# Altium integrated library GYT_Rx.IntLib: 45 symbols
Pins are listed as number, name and electrical type; pins without a type are passive.

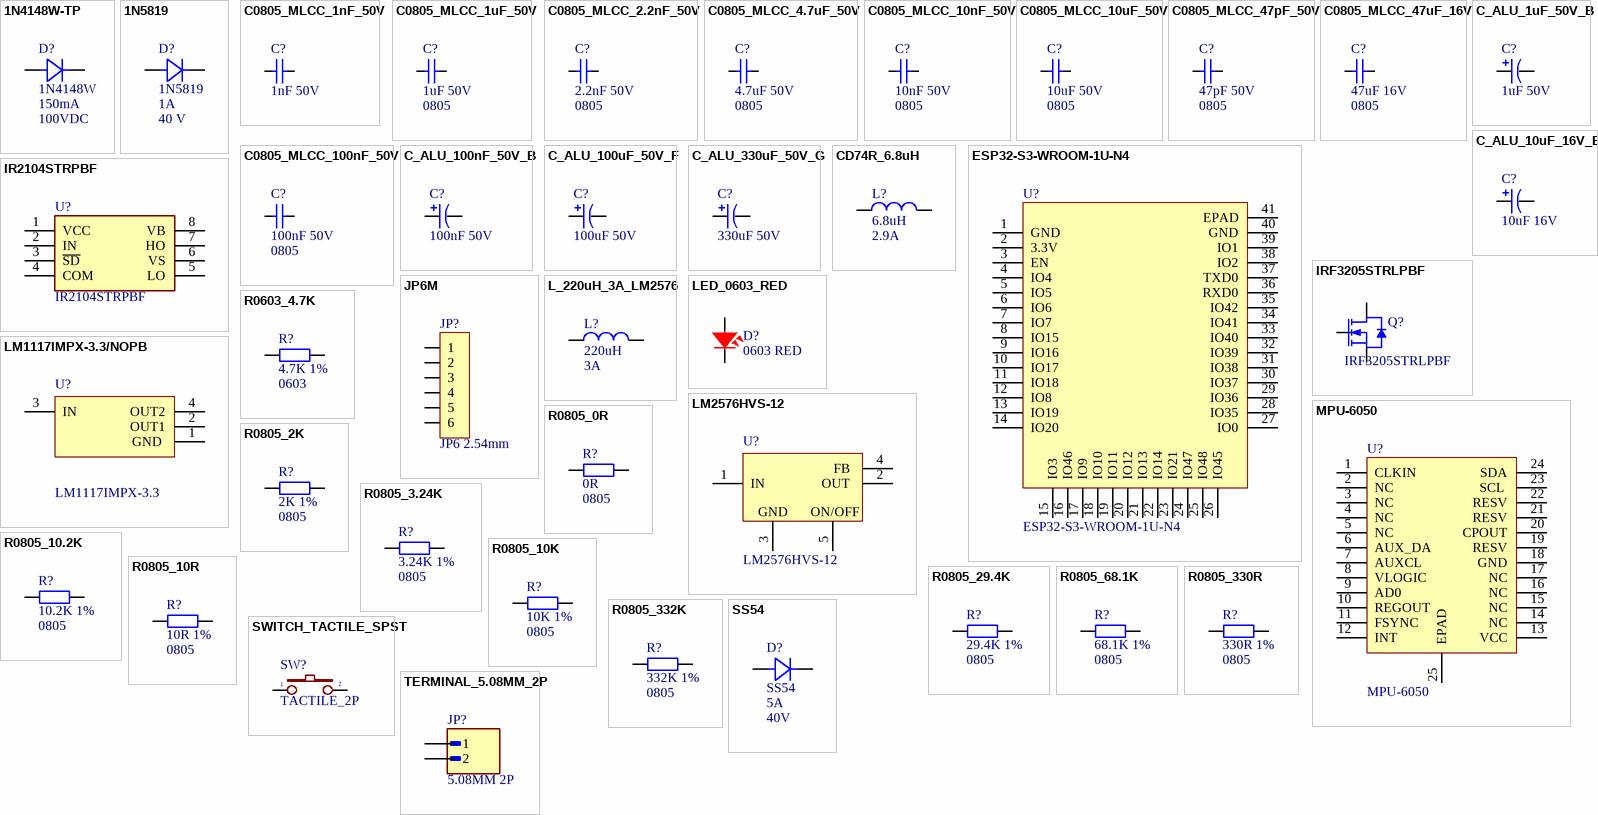
[diagram p0: symbols 1N4148W-TP to TERMINAL_5.08MM_2P]

## 1N4148W-TP
designator D?, comment 1N4148W  Current: 150mA  DC Voltage: 100VDC
Diode 100 V 150mA Surface Mount SOD-123; Manufacturer: Micro Commercial Co; Manufacture Part Number: 1N4148W-TP; Packaging: Cut Tape (CT); Link: https://www.digikey.cn/en/products/detail/micro-commercial-co/1N4148W-TP/717196; Price: $0.12
footprint DIO-SMD-123
pins: A, C

## 1N5819
designator D?  Current - Average Rectified (Io): 1A  Voltage - DC Reverse (Vr) (Max): 40 V
Diode 40 V 1A Surface Mount SOD-123; Manufacturer: Diodes Incorporated; Manufacture Part Number: 1N5819HW-7-F; Voltage - Forward (Vf) (Max) @ If: 450 mV @ 1 A; Capacitance @ Vr, F: 60pF @ 4V, 1MHz; Packaging: Cut Tape (CT); Link: https://www.digikey.cn/en/products/detail/diodes-incorporated/1N5819HW-7-F/814970; Price: $0.43; Operating Temperature - Junction: -65°C ~ 125°C
footprint DIO-SMD-123
pins: A, C

## C0805_MLCC_1nF_50V
designator C?, comment 1nF 50V
1000 pF ±5% 50V Ceramic Capacitor C0G, NP0 0805 (2012 Metric); Manufacturer: KEMET; Manufacture Part Number: C0805C102J5GAC7800; Packaging: Cut Tape (CT); Link: https://www.digikey.cn/en/products/detail/kemet/C0805C102J5GAC7800/411135; Price: $0.11; Size: 0805
footprint CAP_SMD_0805_NEW
pins: 1, 2

## C0805_MLCC_1uF_50V
designator C?, comment 1uF 50V  Size: 0805
1 µF ±10% 50V Ceramic Capacitor X7R 0805 (2012 Metric); Manufacturer: Samsung Electro-Mechanics; Manufacture Part Number: CL21B105KBFNNNG; Packaging: Cut Tape (CT); Link: https://www.digikey.cn/en/products/detail/samsung-electro-mechanics/CL21B105KBFNNNG/3894467; Price: $0.11
footprint CAP_SMD_0805_NEW
pins: 1, 2

## C0805_MLCC_2.2nF_50V
designator C?, comment 2.2nF 50V  Size: 0805
2200 pF ±1% 50V Ceramic Capacitor C0G, NP0 0805 (2012 Metric); Manufacturer: YAGEO; Manufacture Part Number: CC0805FKNPO9BN222; Packaging: Cut Tape (CT); Link: https://www.digikey.cn/en/products/detail/yageo/CC0805FKNPO9BN222/5883918; Price: $0.45
footprint CAP_SMD_0805_NEW
pins: 1, 2

## C0805_MLCC_4.7uF_50V
designator C?, comment 4.7uF 50V  Size: 0805
4.7 µF ±10% 50V Ceramic Capacitor X5R 0805 (2012 Metric); Manufacturer: Samsung Electro-Mechanics; Manufacture Part Number: CL21A475KBQNNNE; Packaging: Cut Tape (CT); Link: https://www.digikey.cn/en/products/detail/samsung-electro-mechanics/CL21A475KBQNNNE/3886906; Price: $0.23
footprint CAP_SMD_0805_NEW
pins: 1, 2

## C0805_MLCC_10nF_50V
designator C?, comment 10nF 50V  Size: 0805
10000 pF ±10% 50V Ceramic Capacitor X7R 0805 (2012 Metric); Manufacturer: Samsung Electro-Mechanics; Manufacture Part Number: CL21B103KBANNNC; Packaging: Cut Tape (CT); Link: https://www.digikey.cn/en/products/detail/samsung-electro-mechanics/CL21B103KBANNNC/3886673; Price: $0.10
footprint CAP_SMD_0805_NEW
pins: 1, 2

## C0805_MLCC_10uF_50V
designator C?, comment 10uF 50V  Size: 0805
10 µF ±20% 50V Ceramic Capacitor X5R 0805 (2012 Metric); Manufacturer: Murata Electronics; Manufacture Part Number: GRM21BR61H106ME43L; Packaging: Cut Tape (CT); Link: https://www.digikey.cn/en/products/detail/murata-electronics/GRM21BR61H106ME43L/10326317; Price: $0.34
footprint CAP_SMD_0805_NEW
pins: 1, 2

## C0805_MLCC_47pF_50V
designator C?, comment 47pF 50V  Size: 0805
47 pF ±5% 50V Ceramic Capacitor C0G, NP0 0805 (2012 Metric); Manufacturer: YAGEO; Manufacture Part Number: CC0805JRNPO9BN470; Packaging: Cut Tape (CT); Link: https://www.digikey.cn/en/products/detail/yageo/CC0805JRNPO9BN470/302841; Price: $0.10
footprint CAP_SMD_0805_NEW
pins: 1, 2

## C0805_MLCC_47uF_16V
designator C?, comment 47uF 16V  Size: 0805
47 µF ±10% 16V Ceramic Capacitor X5R 1210 (3225 Metric); Manufacturer: Samsung Electro-Mechanics; Manufacture Part Number: CL32A476KOJNNNE; Packaging: Cut Tape (CT); Link: https://www.digikey.cn/en/products/detail/samsung-electro-mechanics/CL32A476KOJNNNE/3889034; Price: $0.51
footprint CAP_SMD_0805_NEW
pins: 1, 2

## C0805_MLCC_100nF_50V
designator C?, comment 100nF 50V  Size: 0805
0.1 µF ±10% 50V Ceramic Capacitor X7R 0805 (2012 Metric); Manufacturer: YAGEO; Manufacture Part Number: CC0805KRX7R9BB104; Packaging: Cut Tape (CT); Link: https://www.digikey.cn/en/products/detail/yageo/CC0805KRX7R9BB104/302874; Price: $0.10
footprint CAP_SMD_0805_NEW
pins: 1, 2

## C_ALU_1uF_50V_B
designator C?, comment 1uF 50V
1uF 50V 7mA@120Hz ±20% SMD,D4xL5.4mm Aluminum Electrolytic Capacitors - SMD ROHS; Manufacturer: KNSCHA; Manufacture Part Number: RST1UF50V017; Packaging: Cut Tape; Link: https://www.lcsc.com/product-detail/Aluminum-Electrolytic-Capacitors-SMD_KNSCHA-RST1UF50V017_C4747972.html; Price: $ 0.0209
footprint CAP-ALU-SMD-B -NEW
pins: 1, 2

## C_ALU_10uF_16V_B
designator C?, comment 10uF 16V
10uF 16V 14mA@120Hz ±20% SMD,D4xL5.4mm Aluminum Electrolytic Capacitors - SMD ROHS; Manufacturer: KNSCHA; Manufacture Part Number: RST10UF16V013; Packaging: Cut Tape (CT); Link: https://www.lcsc.com/product-detail/Aluminum-Electrolytic-Capacitors-SMD_KNSCHA-RST10UF16V013_C4747968.html; Price: $0.0217; Size: B
footprint CAP-ALU-SMD-B -NEW
pins: 1, 2

## C_ALU_100nF_50V_B
designator C?, comment 100nF 50V
100nF 50V ±20% SMD,D4xL5.4mm Aluminum Electrolytic Capacitors - SMD ROHS; Manufacturer: Changzhou Huawei Elec; Manufacture Part Number: VT1H0R1MB054000CE0; Packaging: Cut Tape; Link: https://www.lcsc.com/product-detail/Aluminum-Electrolytic-Capacitors-SMD_Changzhou-Huawei-Elec-VT1H0R1MB054000CE0_C271438.html; Price: $ 0.0342
footprint CAP-ALU-SMD-B -NEW
pins: 1, 2

## C_ALU_100uF_50V_F
designator C?, comment 100uF 50V
100uF 50V 140mA@120Hz ±20% SMD,D8xL10mm Aluminum Electrolytic Capacitors - SMD ROHS; Manufacturer: Nichicon; Manufacture Part Number: UWT1H101MNL1GS; Link: https://jlcpcb.com/partdetail/Nichicon-UWT1H101MNL1GS/C445063?spm=searchList; Price: $0.1311
footprint CAP-ALU-SMD-F-NEW
pins: 1, 2

## C_ALU_330uF_50V_G
designator C?, comment 330uF 50V
330uF 50V 170mA@120Hz ±20% SMD,D10xL10.2mm Aluminum Electrolytic Capacitors - SMD ROHS; Manufacturer: KNSCHA; Manufacture Part Number: RVT330UF50V167RV085; Packaging: Cut Tape (CT); Link: https://jlcpcb.com/partdetail/KNSCHA-RVT330UF50V167RV085/C5155333; Price: $0.0941
footprint CAP-ALU-SMD-G-NEW
pins: 1, 2

## CD74R_6.8uH
designator L?  Inductor: 6.8uH  Current: 2.9A  (hidden comment: CD74R_6.8uH)
2.9A 6.8uH ±30% SMD,7.5x7.5mm Power Inductors ROHS; Manufacturer: SHOU HAN; Manufacture Part Number: CYH74-6.8UH; Link: https://www.lcsc.com/product-detail/Power-Inductors_SHOU-HAN-CYH74-6-8UH_C19268626.html; Price: $ 0.0674
footprint CD74R
pins: 1, 2

## ESP32-S3-WROOM-1U-N4
designator U?
SMD,18x19.2mm WiFi Modules ROHS; Manufacturer: Espressif Systems; Manufacture Part Number: ESP32-S3-WROOM-1U-N4; Packaging: Cut Tape (CT); Link: https://www.lcsc.com/product-detail/WiFi-Modules_Espressif-Systems-ESP32-S3-WROOM-1U-N4_C2980296.html; Price: $ 3.72
footprint ESP32-S3-WROOM-1U
pins: 1 GND, 2 3.3V, 3 EN, 4 IO4, 5 IO5, 6 IO6, 7 IO7, 8 IO15, 9 IO16, 10 IO17, 11 IO18, 12 IO8, 13 IO19, 14 IO20, 15 IO3, 16 IO46, 17 IO9, 18 IO10, 19 IO11, 20 IO12, 21 IO13, 22 IO14, 23 IO21, 24 IO47, 25 IO48, 26 IO45, 27 IO0, 28 IO35, 29 IO36, 30 IO37, 31 IO38, 32 IO39, 33 IO40, 34 IO41, 35 IO42, 36 RXD0, 37 TXD0, 38 IO2, 39 IO1, 40 GND, 41 EPAD

## IR2104STRPBF
designator U?
Half Bridge 2 210mA 100ns 50ns 10V~20V 360mA SOIC-8 Gate Drivers ROHS; Manufacturer: Infineon Technologies; Manufacture Part Number: IR2104STRPBF; Packaging: Cut Tape (CT); Link: https://www.lcsc.com/product-detail/Gate-Drivers_Infineon-Technologies-IR2104STRPBF_C2960.html; Price: $ 0.51; Peak Output Current(source): 210mA; Rise Time: 100ns; Fall Time: 50ns; Supply Voltage: 10V~20V; Peak Output Current(sink): 360mA
footprint SOIC-8
pins: 1 VCC, 2 IN, 3 ~{SD}, 4 COM, 5 LO, 6 VS, 7 HO, 8 VB

## IRF3205STRLPBF
designator Q?
N-Channel 55 V 110A (Tc) 200W (Tc) Surface Mount D2PAK; Manufacturer: Infineon Technologies; Drain to Source Voltage (Vdss): 55 V; Drive Voltage (Max Rds On, Min Rds On): 10V; Vgs (Max): ±20V; Manufacture Part Number: IRF3205STRLPBF; Packaging: Cut Tape (CT); Link: https://www.digikey.cn/en/products/detail/infineon-technologies/IRF3205STRLPBF/856540; Price: $1.73; FET Type: N-Channel; Current - Continuous Drain (Id) @ 25°C: 110A (Tc); Power Dissipation (Max): 200W (Tc); Operating Temperature: -55°C ~ 175°C (TJ)
footprint TO263-3
pins: 1 G, 3 S, 4 D

## JP6M
designator JP?, comment JP6 2.54mm
Connector Header Through Hole 6 position 0.100" (2.54mm); Manufacturer: Würth Elektronik; Manufacture Part Number: 61300611121; Packaging: Bulk; Link: https://www.digikey.cn/en/products/detail/w%C3%BCrth-elektronik/61300611121/4846833; Price: $0.35
footprint JP6_M
pins: 1, 2, 3, 4, 5, 6

## L_220uH_3A_LM2576
designator L?, comment Inductor: 220uH  Current: 3A  (hidden comment: 220uH 3A)
Link: https://banlinhkien.com/cuon-cam-220uh-3a-lm2576-p6646202.html
footprint L_TOR_13x7
pins: 1, 2

## LED_0603_RED
designator D?, comment 0603 RED
Red 625nm LED Indication - Discrete 2V 0603 (1608 Metric); Manufacturer: Würth Elektronik; Manufacture Part Number: 150060RS75000; Packaging: Cut Tape (CT); Link: https://www.digikey.cn/en/products/detail/w%C3%BCrth-elektronik/150060RS75000/4489901; Price: $0.15
footprint LED-0603
pins: 1, 2

## LM1117IMPX-3.3/NOPB
designator U?, comment LM1117IMPX-3.3
Linear Voltage Regulator IC Positive Fixed 1 Output 800mA SOT-223-4; Manufacturer: Texas Instruments; Manufacture Part Number: LM1117IMPX-3.3/NOPB; Packaging: Cut Tape (CT); Link: https://www.digikey.cn/en/products/detail/texas-instruments/LM1117IMPX-3-3-NOPB/1870906; Price: $1.14
footprint SOT-223-4
pins: 1 GND , 2 OUT1, 3 IN, 4 OUT2
text: /

## LM2576HVS-12
designator U?
Switching Voltage Regulators SIMPLE SWITCHER&reg; 4V to 60V, 3A Low Component Count Step-Down Regulator 5-DDPAK/TO-263 -40 to 125; Manufacturer: Texas Instruments; Manufacture Part Number: LM2576HVS-12; Packaging: Tube; Link: https://www.mouser.vn/ProductDetail/Texas-Instruments/LM2576HVS-12?qs=X1J7HmVL2ZG26yVYlinkCQ%3D%3D; Price: $11.83
footprint IC_LM2596SX-12/NOPB
pins: 1 IN, 2 OUT , 3 GND , 4 FB , 5 ON/OFF
text: /

## MPU-6050
designator U?
Accelerometer, Gyroscope, 6 Axis Sensor I2C Output; Manufacturer: TDK InvenSense; Manufacture Part Number: MPU-6050; Packaging: Cut Tape; Link: https://www.lcsc.com/product-detail/Attitude-Sensor-Gyroscope_TDK-InvenSense-MPU-6050_C24112.html; Price: $ 7.87
footprint QFN_24
pins: 1 CLKIN, 2 NC, 3 NC, 4 NC, 5 NC, 6 AUX_DA, 7 AUXCL, 8 VLOGIC, 9 AD0 , 10 REGOUT, 11 FSYNC, 12 INT, 13 VCC, 14 NC, 15 NC, 16 NC, 17 NC, 18 GND, 19 RESV, 20 CPOUT, 21 RESV, 22 RESV, 23 SCL , 24 SDA, 25 EPAD

## R0603_4.7K
designator R?, comment 4.7K 1%  Size: 0603
4.7 kOhms ±1% 0.1W, 1/10W Chip Resistor 0603 (1608 Metric) Moisture Resistant Thick Film; Manufacturer: YAGEO; Manufacture Part Number: RC0603FR-074K7L; Packaging: Cut Tape (CT); Link: https://www.digikey.com/en/products/detail/yageo/RC0603FR-074K7L/727212; Price: $0.10
footprint RES_SMD_0603
pins: 1, 2

## R0805_0R
designator R?, comment 0R  Size: 0805
0 Ohms Jumper Chip Resistor 0805 (2012 Metric) Automotive AEC-Q200 Thick Film; Manufacturer: Vishay Dale; Manufacture Part Number: CRCW08050000Z0EA; Packaging: Cut Tape (CT); Link: https://www.digikey.cn/en/products/detail/vishay-dale/CRCW08050000Z0EA/1175125; Price: $0.10
footprint RES_SMD_0805
pins: 1, 2

## R0805_2K
designator R?, comment 2K 1%  Size: 0805
2 kOhms ±1% 0.125W, 1/8W Chip Resistor 0805 (2012 Metric) Automotive AEC-Q200 Thick Film; Manufacturer: Panasonic Electronic Components; Manufacture Part Number: ERJ-6ENF2001V; Packaging: Cut Tape (CT); Link: https://www.digikey.com/en/products/detail/panasonic-electronic-components/ERJ-6ENF2001V/111341; Price: $0.10
footprint RES_SMD_0805
pins: 1, 2

## R0805_3.24K
designator R?, comment 3.24K 1%  Size: 0805
3.24 kOhms ±1% 0.125W, 1/8W Chip Resistor 0805 (2012 Metric) Moisture Resistant Thick Film; Manufacturer: YAGEO; Manufacture Part Number: RC0805FR-073K24L; Packaging: Cut Tape (CT); Link: https://www.digikey.cn/en/products/detail/yageo/RC0805FR-073K24L/727811; Price: $0.10
footprint RES_SMD_0805
pins: 1, 2

## R0805_10.2K
designator R?, comment 10.2K 1%  Size: 0805
10.2 kOhms ±1% 0.125W, 1/8W Chip Resistor 0805 (2012 Metric) Moisture Resistant Thick Film; Manufacturer: YAGEO; Manufacture Part Number: RC0805FR-0710K2L; Packaging: Cut Tape (CT); Link: https://www.digikey.cn/en/products/detail/yageo/RC0805FR-0710K2L/727538; Price: $0.10
footprint RES_SMD_0805
pins: 1, 2

## R0805_10K
designator R?, comment 10K 1%  Size: 0805
10 kOhms ±1% 0.125W, 1/8W Chip Resistor 0805 (2012 Metric) Moisture Resistant Thick Film; Manufacturer: YAGEO; Manufacture Part Number: RC0805FR-0710KL; Packaging: Cut Tape (CT); Price: $0.10; Link: https://www.digikey.cn/en/products/detail/yageo/RC0805FR-0710KL/727535
footprint RES_SMD_0805
pins: 1, 2

## R0805_10R
designator R?, comment 10R 1%  Size: 0805
10 Ohms ±1% 0.125W, 1/8W Chip Resistor 0805 (2012 Metric) Moisture Resistant Thick Film; Manufacturer: YAGEO; Manufacture Part Number: RC0805FR-0710RL; Packaging: Cut Tape (CT); Link: https://www.digikey.com/en/products/detail/yageo/RC0805FR-0710RL/727534; Price: $0.10
footprint RES_SMD_0805
pins: 1, 2

## R0805_29.4K
designator R?, comment 29.4K 1%  Size: 0805
29.4 kOhms ±1% 0.125W, 1/8W Chip Resistor 0805 (2012 Metric) Moisture Resistant Thick Film; Manufacturer: YAGEO; Manufacture Part Number: RC0805FR-0729K4L; Packaging: Cut Tape (CT); Price: $0.10; Link: https://www.digikey.cn/en/products/detail/yageo/RC0805FR-0729K4L/727796
footprint RES_SMD_0805
pins: 1, 2

## R0805_68.1K
designator R?, comment 68.1K 1%  Size: 0805
68.1 kOhms ±1% 0.125W, 1/8W Chip Resistor 0805 (2012 Metric) Moisture Resistant Thick Film; Manufacturer: YAGEO; Manufacture Part Number: RC0805FR-0768K1L; Packaging: Cut Tape (CT); Price: $0.10; Link: https://www.digikey.cn/en/products/detail/yageo/RC0805FR-0768K1L/728100?s=N4IgTCBcDaIEoGEAMAOJBWAYnAtEg7AGwoDSAjADIgC6AvkA
footprint RES_SMD_0805
pins: 1, 2

## R0805_330R
designator R?, comment 330R 1%  Size: 0805
330 Ohms ±1% 0.125W, 1/8W Chip Resistor 0805 (2012 Metric) Automotive AEC-Q200 Thick Film; Manufacturer: Stackpole Electronics Inc; Manufacture Part Number: RMCF0805FT330R; Packaging: Cut Tape (CT); Link: https://www.digikey.cn/en/products/detail/stackpole-electronics-inc/RMCF0805FT330R/1760484; Price: $0.10
footprint RES_SMD_0805
pins: 1, 2

## R0805_332K
designator R?, comment 332K 1%  Size: 0805
332 kOhms ±1% 0.125W, 1/8W Chip Resistor 0805 (2012 Metric) Moisture Resistant Thick Film; Manufacturer: YAGEO; Manufacture Part Number: RC0805FR-07332KL; Packaging: Cut Tape (CT); Price: $0.10; Link: https://www.digikey.cn/en/products/detail/yageo/RC0805FR-07332KL/727869
footprint RES_SMD_0805
pins: 1, 2

## SS54
designator D?  Current: 5A  DC Voltage: 40V
DIODE SCHOTTKY 40V 5A SMA; Manufacturer: EVVO; Manufacture Part Number: SS54; Packaging: Cut Tape (CT); Link: https://www.digikey.cn/en/products/detail/evvo/SS54/21407219; Price: $0.73
footprint SMA
pins: A, C

## SWITCH_TACTILE_SPST
designator SW?, comment TACTILE_2P
Tactile Switch SPST-NO Top Actuated Surface Mount; Manufacturer: C&K; Manufacture Part Number: PTS636 SM25F SMTR LFS; Packaging: Cut Tape (CT); Link: https://www.digikey.cn/en/products/detail/c-k/PTS636-SM25F-SMTR-LFS/10071742?s=N4IgTCBcDaIAoBUDKA2AzCgBEgsmArAGLY4IBKmAMoUiALoC%2BQA; Price: $0.24
footprint C&K SW 2P
pins: 1, 2

## TERMINAL_5.08MM_2P
designator JP?, comment 5.08MM 2P
2 Position Terminal Block Header, Male Pins, Shrouded (2 Side) 0.200" (5.08mm) 90°, Right Angle Through Hole; Manufacturer: Phoenix Contact; Manufacture Part Number: 1759017; Packaging: Bulk; Link: https://www.digikey.cn/en/products/detail/phoenix-contact/1759017/260463?s=N4IgTCBcDaIIwHYCsBOADIkBdAvkA; Price: $0.58
footprint 5.08MM 2P
pins: 1, 2

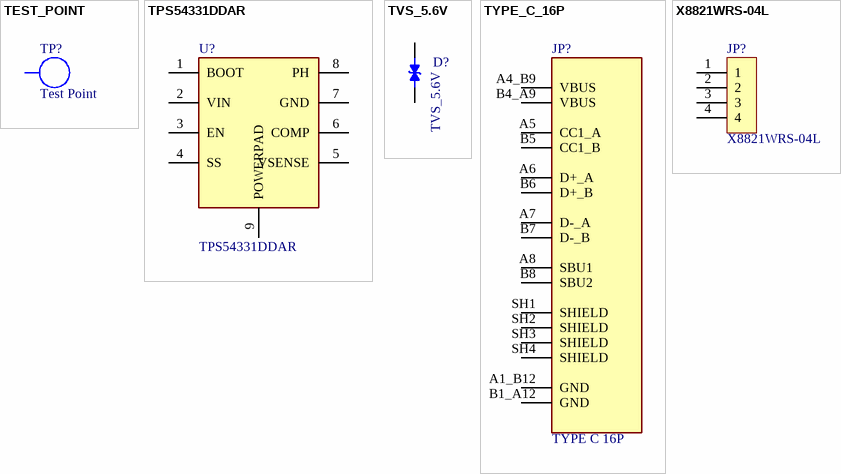
[diagram p1: symbols TEST_POINT to X8821WRS-04L]

## TEST_POINT
designator TP?, comment Test Point
footprint TEST_POINT
pins: 1

## TPS54331DDAR
designator U?
Buck Switching Regulator IC Positive Adjustable 0.8V 1 Output 3A 8-PowerSOIC (0.154", 3.90mm Width); Manufacturer: Texas Instruments; Manufacture Part Number: TPS54331DDAR; Packaging: Cut Tape; Link: https://www.digikey.cn/en/products/detail/texas-instruments/TPS54331DDAR/3053257; Price: $1.88
footprint TPS54531DDAR
pins: 1 BOOT, 2 VIN, 3 EN, 4 SS, 5 VSENSE, 6 COMP, 7 GND, 8 PH, 9 POWERPAD

## TVS_5.6V
designator D?
9.4A 18.6V 5.6V Bi-Directional 5V SOD-523 Electrostatic and Surge Protection (TVS/ESD) ROHS; Manufacturer: LRC; Manufacture Part Number: LESD5D5.0CT1G; Voltage - Reverse Standoff (Typ): 4V; Voltage - Breakdown (Min): 6V; Voltage - Clamping (Max) @ Ipp: 8V; Packaging: Cut Tape (CT); Link: https://www.lcsc.com/product-detail/New-Arrivals_Leshan-Radio-LESD5D5-0CT1G_C383211.html; Price: $ 0.0149
footprint SOD_523
pins: 1, 2

## TYPE_C_16P
designator JP?, comment TYPE C 16P
USB-C (USB TYPE-C) USB 2.0 Receptacle Connector 24 (16+8 Dummy) Position Surface Mount, Right Angle; Through Hole; Manufacturer: Amphenol ICC (Commercial Products); Manufacture Part Number: 12402012E212A; Packaging: Cut Tape; Link: https://www.digikey.cn/en/products/detail/amphenol-cs-commercial-products/12402012E212A/13683192; Price: $0.79
footprint TYPE C 16P
pins: A1_B12 GND, A4_B9 VBUS, A5 CC1_A, A6 D+_A, A7 D-_A, A8 SBU1, B1_A12 GND, B4_A9 VBUS, B5 CC1_B, B6 D+_B, B7 D-_B, B8 SBU2, SH1 SHIELD, SH2 SHIELD, SH3 SHIELD, SH4 SHIELD

## X8821WRS-04L
designator JP?
1x4P 4P XH 1 Tin 2.5mm 4 3A Brass Surface Mount，Right Angle SMD,P=2.5mm,Surface Mount，Right Angle Wire To Board Connector ROHS; Manufacturer: XKB Connection; Manufacture Part Number: X8821WRS-04-9TSN; Link: https://www.lcsc.com/product-detail/Wire-To-Board-Connector_XKB-Connection-X8821WRS-04-9TSN_C397434.html; Price: $ 0.1564
footprint CONN_X8821WRS-04L-LPSN
pins: 1, 2, 3, 4